# Altium schematic symbol library U_INA159.Schlib: 1 symbol
Pins are listed as number, name and electrical type; pins without a type are passive.

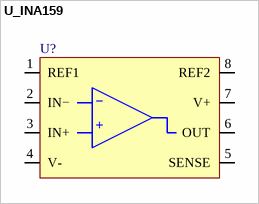
[diagram p0: symbol U_INA159]

## U_INA159
designator U?
pins: 1 REF1, 2 IN−, 3 IN+, 4 V-, 5 SENSE, 6 OUT, 7 V+, 8 REF2
text: −; +